# Altium footprint library HW3000TR4-GC Altium Designer.PcbLib: 1 footprints
Each footprint in its own frame and in the unit in brackets; x right, y up, seen from the top. Pads: shape width x height; smd on the part's side, far side on the other; paste and mask are expansions set on the pad; w line width, h text height; cw(c..) or ccw(c..) is an arc to the next point about the centre after c.
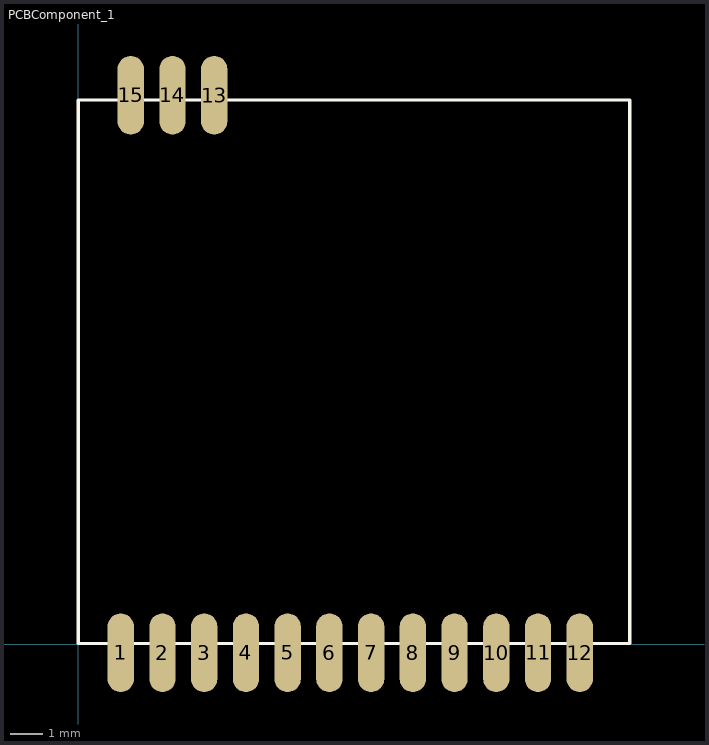
[diagram p0: the footprint, top view; thin cyan lines are the x and y axes]

## PCBComponent_1 [mm]
pads (15):
  oval 0.8x2.4 smd: 1(1.295,-0.254) 2(2.565,-0.254) 3(3.835,-0.254) 4(5.105,-0.254) 5(6.375,-0.254) 6(7.645,-0.254) 7(8.915,-0.254) 8(10.185,-0.254) 9(11.455,-0.254) 10(12.725,-0.254) 11(13.995,-0.254) 12(15.265,-0.254) 13(4.14,16.713) 14(2.87,16.713) 15(1.6,16.713)
Top Overlay:
  lines w0.1: -0.001,0.025 -0.001,16.565 16.789,16.565 16.789,0.025 -0.001,0.025